# Altium schematic symbol library KK_Triangle_cubic.SchLib: 41 symbols
Pins are listed as number, name and electrical type; pins without a type are passive.

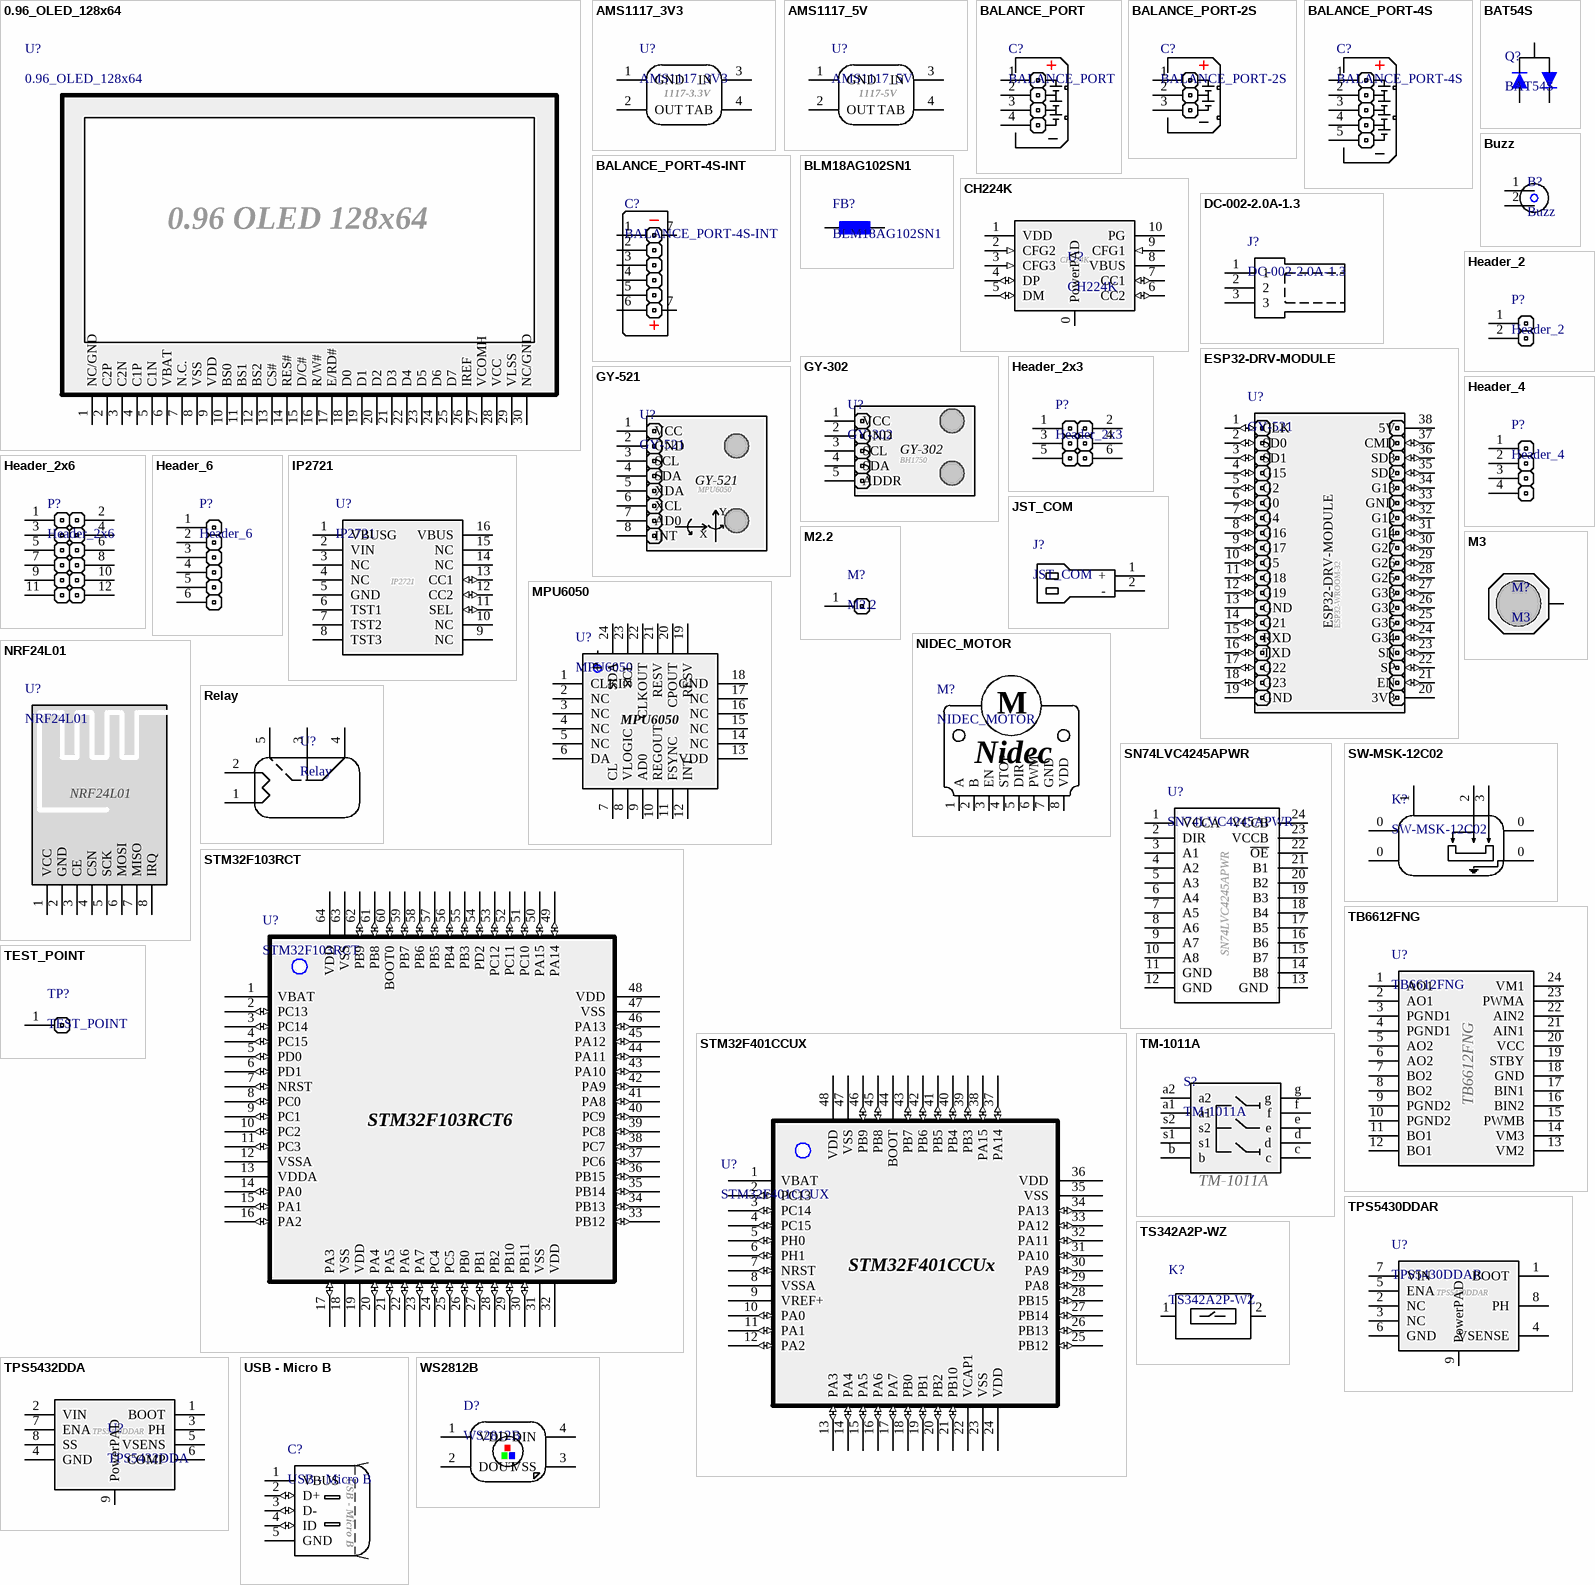
[diagram p0: symbols 0.96_OLED_128x64 to WS2812B]

## 0.96_OLED_128x64
designator U?
pins: 1 NC/GND (power), 2 C2P (power), 3 C2N (power), 4 C1P (power), 5 C1N (power), 6 VBAT (power), 7 N.C. (power), 8 VSS (power), 9 VDD (power), 10 BS0 (power), 11 BS1 (power), 12 BS2 (power), 13 CS# (power), 14 RES# (power), 15 D/C# (power), 16 R/W# (power), 17 E/RD# (power), 18 D0 (power), 19 D1 (power), 20 D2 (power), 21 D3 (power), 22 D4 (power), 23 D5 (power), 24 D6 (power), 25 D7 (power), 26 IREF (power), 27 VCOMH (power), 28 VCC (power), 29 VLSS (power), 30 NC/GND (power)
text: 0.96 OLED 128x64

## AMS1117_3V3
designator U?
pins: 1 GND (power), 2 OUT (power), 3 IN (power), 4 TAB (power)
text: 1117-3.3V

## AMS1117_5V
designator U?
pins: 1 GND (power), 2 OUT (power), 3 IN (power), 4 TAB (power)
text: 1117-5V

## BALANCE_PORT
designator C?
pins: 1 (power), 2 (power), 3 (power), 4 (power)

## BALANCE_PORT-2S
designator C?
pins: 1 (power), 2 (power), 3 (power)

## BALANCE_PORT-4S
designator C?
pins: 1 (power), 2 (power), 3 (power), 4 (power), 5 (power)

## BALANCE_PORT-4S-INT
designator C?
pins: 1 (power), 2 (power), 3 (power), 4 (power), 5 (power), 6 (power), 7 (power), 7 (power)

## BAT54S
designator Q?
pins: 1 IN (power), 2 GND (power), 3 VCC (power)

## BLM18AG102SN1
designator FB?
pins: 1, 2

## Buzz
designator B?
pins: 1 (power), 2 (power)

## CH224K
designator U?
pins: 0 PowerPAD (power), 1 VDD (power), 2 CFG2 (in), 3 CFG3 (in), 4 DP (io), 5 DM (io), 6 CC2 (io), 7 CC1 (io), 8 VBUS (power), 9 CFG1 (in), 10 PG (power)

## DC-002-2.0A-1.3
designator J?
pins: 1 (power), 2 (power), 3 (power)

## ESP32-DRV-MODULE
designator U?, comment GY-521
pins: 1 CLK (io), 2 SD0 (io), 3 SD1 (io), 4 G15 (io), 5 G2 (io), 6 G0 (io), 7 G4 (io), 8 G16 (io), 9 G17 (io), 10 G5 (io), 11 G18 (io), 12 G19 (io), 13 GND (power), 14 G21 (io), 15 RXD (io), 16 TXD (io), 17 G22 (io), 18 G23 (io), 19 GND (power), 20 3V3 (power), 21 EN (io), 22 SP (io), 23 SN (io), 24 G34 (io), 25 G35 (io), 26 G32 (io), 27 G33 (io), 28 G25 (io), 29 G26 (io), 30 G27 (io), 31 G14 (io), 32 G12 (io), 33 GND (io), 34 G13 (io), 35 SD2 (io), 36 SD3 (io), 37 CMD (io), 38 5V (power)
text: ESP32-WROOM-32

## GY-302
designator U?
pins: 1 VCC (power), 2 GND (power), 3 SCL (power), 4 SDA (power), 5 ADDR (power)
text: BH1750

## GY-521
designator U?
pins: 1 VCC (power), 2 GND (power), 3 SCL (power), 4 SDA (power), 5 XDA (power), 6 XCL (power), 7 AD0 (power), 8 INT (power)
text: MPU6050; Y; X

## Header_2
designator P?
pins: 1 (power), 2 (power)

## Header_2x3
designator P?
pins: 1 (power), 2 1 (power), 3 2 (power), 4 2 (power), 5 3 (power), 6 3 (power)

## Header_2x6
designator P?
pins: 1 (power), 2 1 (power), 3 2 (power), 4 2 (power), 5 3 (power), 6 3 (power), 7 1 (power), 8 1 (power), 9 2 (power), 10 2 (power), 11 3 (power), 12 3 (power)

## Header_4
designator P?
pins: 1 (power), 2 (power), 3 (power), 4 (power)

## Header_6
designator P?
pins: 1 (power), 2 (power), 3 (power), 4 (power), 5 (power), 6 (power)

## IP2721
designator U?
pins: 1 VBUSG (power), 2 VIN (power), 3 NC (power), 4 NC (power), 5 GND (power), 6 TST1 (power), 7 TST2 (power), 8 TST3 (power), 9 NC (power), 10 NC (power), 11 SEL (io), 12 CC2 (io), 13 CC1 (io), 14 NC (power), 15 NC (power), 16 VBUS (power)

## JST_COM
designator J?
pins: 1 + (power), 2 - (power)

## M2.2
designator M?
pins: 1 (power)

## M3
designator M?
pins: 1 (power)

## MPU6050
designator U?
pins: 1 CLKIN (power), 2 NC (power), 3 NC (power), 4 NC (power), 5 NC (power), 6 DA (power), 7 CL (power), 8 VLOGIC (power), 9 AD0 (power), 10 REGOUT (power), 11 FSYNC (power), 12 INT (power), 13 VDD (power), 14 NC (power), 15 NC (power), 16 NC (power), 17 NC (power), 18 GND (power), 19 RESV (power), 20 CPOUT (power), 21 RESV (power), 22 CLKOUT (power), 23 SCL (power), 24 SDA (power), 25 P (power)

## NIDEC_MOTOR
designator M?
pins: 1 A (power), 2 B (power), 3 EN (power), 4 STOP (power), 5 DIR (power), 6 PWM (power), 7 GND (power), 8 VDD (power)
text: M; Nidec

## NRF24L01
designator U?
pins: 1 VCC (power), 2 GND (power), 3 CE (power), 4 CSN (power), 5 SCK (power), 6 MOSI (power), 7 MISO (power), 8 IRQ (power)

## Relay
designator U?
pins: 1 (power), 2 (power), 3 (power), 4 (power), 5 (power)

## SN74LVC4245APWR
designator U?
pins: 1 VCCA (power), 2 DIR (power), 3 A1 (power), 4 A2 (power), 5 A3 (power), 6 A4 (power), 7 A5 (power), 8 A6 (power), 9 A7 (power), 10 A8 (power), 11 GND (power), 12 GND (power), 13 GND (power), 14 B8 (power), 15 B7 (power), 16 B6 (power), 17 B5 (power), 18 B4 (power), 19 B3 (power), 20 B2 (power), 21 B1 (power), 22 ~{OE} (power), 23 VCCB (power), 24 VCCB (power)

## STM32F103RCT
designator U?
pins: 1 VBAT (power), 2 PC13 (io), 3 PC14 (io), 4 PC15 (io), 5 PD0 (io), 6 PD1 (io), 7 NRST (io), 8 PC0 (io), 9 PC1 (io), 10 PC2 (io), 11 PC3 (io), 12 VSSA (power), 13 VDDA (power), 14 PA0 (io), 15 PA1 (io), 16 PA2 (io), 17 PA3 (io), 18 VSS (power), 19 VDD (power), 20 PA4 (io), 21 PA5 (io), 22 PA6 (io), 23 PA7 (io), 24 PC4 (io), 25 PC5 (io), 26 PB0 (io), 27 PB1 (io), 28 PB2 (io), 29 PB10 (io), 30 PB11 (io), 31 VSS (power), 32 VDD (power), 33 PB12 (io), 34 PB13 (io), 35 PB14 (io), 36 PB15 (io), 37 PC6 (io), 38 PC7 (io), 39 PC8 (io), 40 PC9 (io), 41 PA8 (io), 42 PA9 (io), 43 PA10 (io), 44 PA11 (io), 45 PA12 (io), 46 PA13 (io), 47 VSS (power), 48 VDD (power), 49 PA14 (io), 50 PA15 (io), 51 PC10 (io), 52 PC11 (io), 53 PC12 (io), 54 PD2 (io), 55 PB3 (io), 56 PB4 (io), 57 PB5 (io), 58 PB6 (io), 59 PB7 (io), 60 BOOT0 (io), 61 PB8 (io), 62 PB9 (io), 63 VSS (power), 64 VDD (power)
text: STM32F103RCT6

## STM32F401CCUX
designator U?
pins: 1 VBAT (power), 2 PC13 (io), 3 PC14 (io), 4 PC15 (io), 5 PH0 (io), 6 PH1 (io), 7 NRST (io), 8 VSSA (power), 9 VREF+ (power), 10 PA0 (io), 11 PA1 (io), 12 PA2 (io), 13 PA3 (io), 14 PA4 (io), 15 PA5 (io), 16 PA6 (io), 17 PA7 (io), 18 PB0 (io), 19 PB1 (io), 20 PB2 (io), 21 PB10 (io), 22 VCAP1 (power), 23 VSS (power), 24 VDD (power), 25 PB12 (io), 26 PB13 (io), 27 PB14 (io), 28 PB15 (io), 29 PA8 (io), 30 PA9 (io), 31 PA10 (io), 32 PA11 (io), 33 PA12 (io), 34 PA13 (io), 35 VSS (power), 36 VDD (power), 37 PA14 (io), 38 PA15 (io), 39 PB3 (io), 40 PB4 (io), 41 PB5 (io), 42 PB6 (io), 43 PB7 (io), 44 BOOT (hiz), 45 PB8 (io), 46 PB9 (io), 47 VSS (power), 48 VDD (power)
text: STM32F401CCUx

## SW-MSK-12C02
designator K?
pins: 0 (power), 0 (power), 0 (power), 0 (power), 1 (power), 2 (power), 3 (power)

## TB6612FNG
designator U?
pins: 1 AO1 (power), 2 AO1 (power), 3 PGND1 (power), 4 PGND1 (power), 5 AO2 (power), 6 AO2 (power), 7 BO2 (power), 8 BO2 (power), 9 PGND2 (power), 10 PGND2 (power), 11 BO1 (power), 12 BO1 (power), 13 VM2 (power), 14 VM3 (power), 15 PWMB (power), 16 BIN2 (power), 17 BIN1 (power), 18 GND (power), 19 STBY (power), 20 VCC (power), 21 AIN1 (power), 22 AIN2 (power), 23 PWMA (power), 24 VM1 (power)

## TEST_POINT
designator TP?
pins: 1 (power)

## TM-1011A
designator S?
pins: a1 (power), a2 (power), b (power), c (power), d (power), e (power), f (power), g (power), s1 (power), s2 (power)

## TPS5430DDAR
designator U?
pins: 1 BOOT (power), 2 NC (power), 3 NC (power), 4 VSENSE (power), 5 ENA (power), 6 GND (power), 7 VIN (power), 8 PH (power), 9 PowerPAD (power)

## TPS5432DDA
designator U?
pins: 1 BOOT (power), 2 VIN (power), 3 PH (power), 4 GND (power), 5 VSENS (power), 6 COMP (power), 7 ENA (power), 8 SS (power), 9 PowerPAD (power)
text: TPS5430DDAR

## TS342A2P-WZ
designator K?
pins: 1 (power), 2 (power)

## USB - Micro B
designator C?
pins: 1 VBUS (power), 2 D+ (io), 3 D- (io), 4 ID (io), 5 GND (power)

## WS2812B
designator D?
pins: 1 VDD (power), 2 DOUT (power), 3 VSS (power), 4 DIN (power)

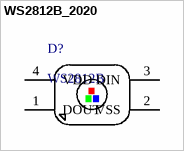
[diagram p1: symbol WS2812B_2020]

## WS2812B_2020
designator D?, comment WS2812B
pins: 1 DOUT (power), 2 VSS (power), 3 DIN (power), 4 VDD (power)